# Altium schematic symbol library 74LVC1G3157GV-Q10H.SchLib: 1 symbol
Pins are listed as number, name and electrical type; pins without a type are passive.

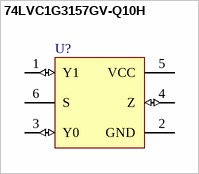
[diagram p0: symbol 74LVC1G3157GV-Q10H]

## 74LVC1G3157GV-Q10H
designator U?
Single 2-Input Positive AND Gate
pins: 1 Y1 (io), 2 GND (power), 3 Y0 (io), 4 Z (io), 5 VCC (power), 6 S